# Altium schematic symbol library Header-254-single-vertical-F.SchLib: 24 symbols
Pins are listed as number, name and electrical type; pins without a type are passive.

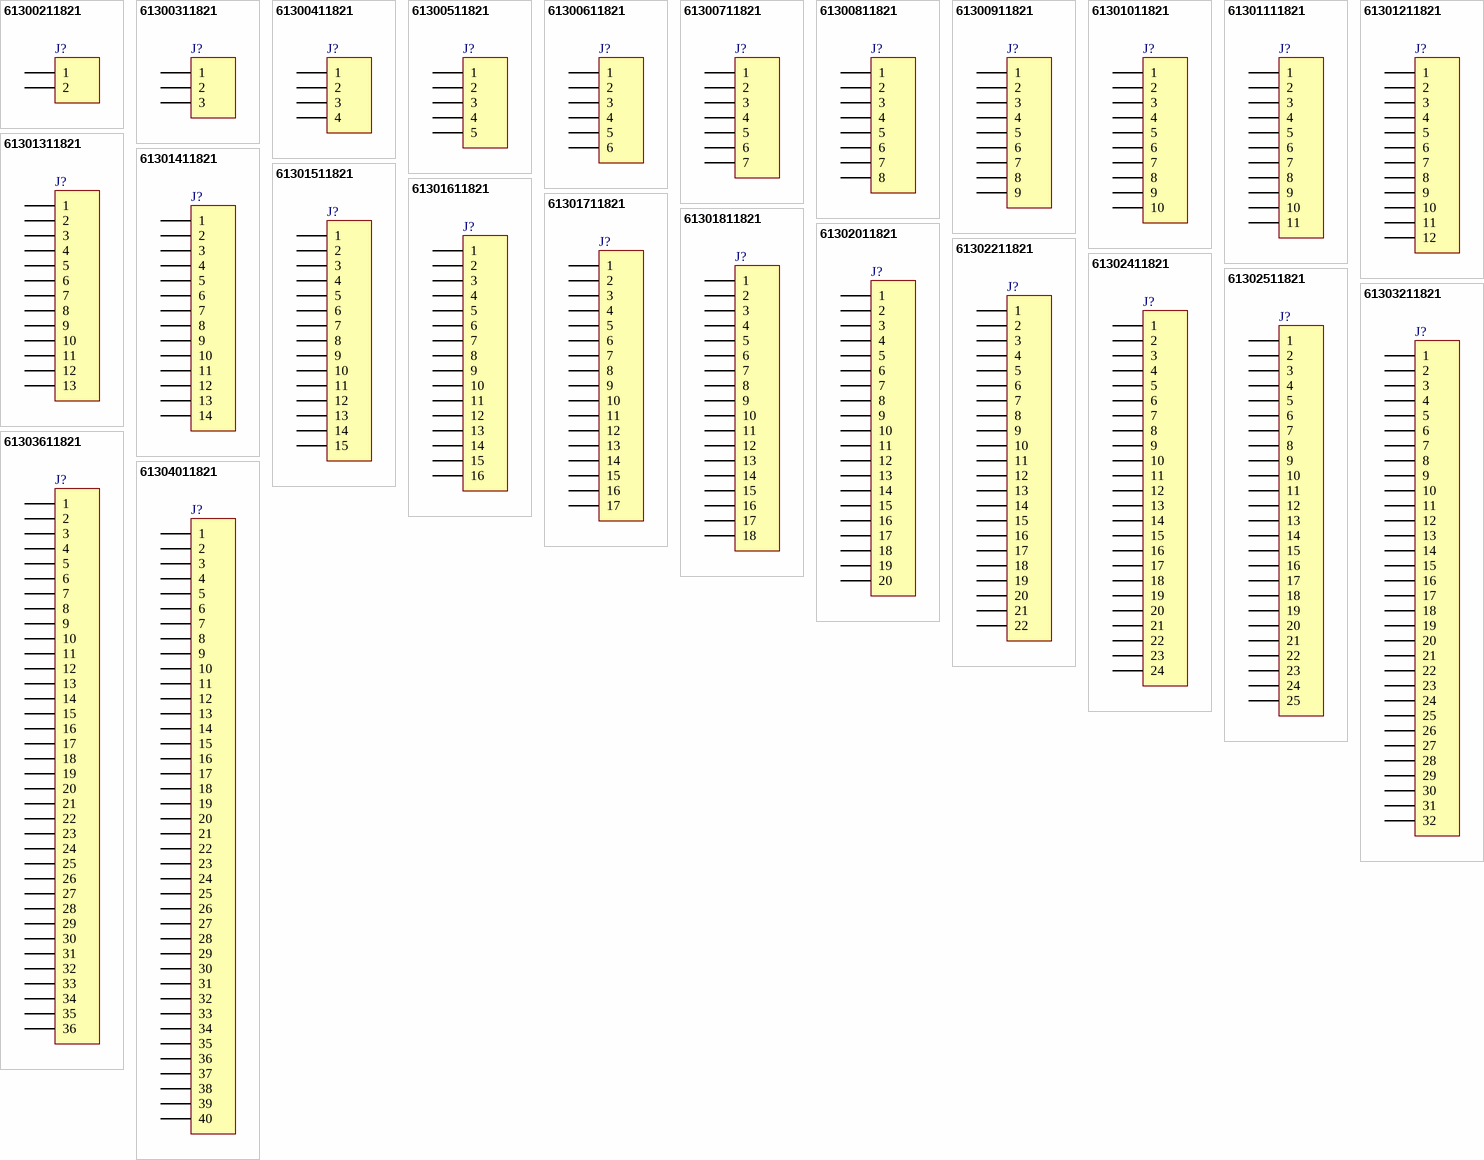
[diagram p0: symbols 61300211821 to 61304011821]

## 61300211821
designator J?, comment 02p  (value not drawn)
WR-PHD 2.54 mm Socket Header, 02p; Part Number: 61300211821; Vendor: Wurth Elektronik; Value: 02p
footprint 61300211821
pins: 1, 2

## 61300311821
designator J?, comment 03p  (value not drawn)
WR-PHD 2.54 mm Socket Header, 03p; Part Number: 61300311821; Vendor: Wurth Elektronik; Value: 03p
footprint 61300311821
pins: 1, 2, 3

## 61300411821
designator J?, comment 04p  (value not drawn)
WR-PHD 2.54 mm Socket Header, 04p; Part Number: 61300411821; Vendor: Wurth Elektronik; Value: 04p
footprint 61300411821
pins: 1, 2, 3, 4

## 61300511821
designator J?, comment 05p  (value not drawn)
WR-PHD 2.54 mm Socket Header, 05p; Part Number: 61300511821; Vendor: Wurth Elektronik; Value: 05p
footprint 61300511821
pins: 1, 2, 3, 4, 5

## 61300611821
designator J?, comment 06p  (value not drawn)
WR-PHD 2.54 mm Socket Header, 06p; Part Number: 61300611821; Vendor: Wurth Elektronik; Value: 06p
footprint 61300611821
pins: 1, 2, 3, 4, 5, 6

## 61300711821
designator J?, comment 07p  (value not drawn)
WR-PHD 2.54 mm Socket Header, 07p; Part Number: 61300711821; Vendor: Wurth Elektronik; Value: 07p
footprint 61300711821
pins: 1, 2, 3, 4, 5, 6, 7

## 61300811821
designator J?, comment 08p  (value not drawn)
WR-PHD 2.54 mm Socket Header, 08p; Part Number: 61300811821; Vendor: Wurth Elektronik; Value: 08p
footprint 61300811821
pins: 1, 2, 3, 4, 5, 6, 7, 8

## 61300911821
designator J?, comment 09p  (value not drawn)
WR-PHD 2.54 mm Socket Header, 09p; Part Number: 61300911821; Vendor: Wurth Elektronik; Value: 09p
footprint 61300911821
pins: 1, 2, 3, 4, 5, 6, 7, 8, 9

## 61301011821
designator J?, comment 10p  (value not drawn)
WR-PHD 2.54 mm Socket Header, 10p; Part Number: 61301011821; Vendor: Wurth Elektronik; Value: 10p
footprint 61301011821
pins: 1, 2, 3, 4, 5, 6, 7, 8, 9, 10

## 61301111821
designator J?, comment 11p  (value not drawn)
WR-PHD 2.54 mm Socket Header, 11p; Part Number: 61301111821; Vendor: Wurth Elektronik; Value: 11p
footprint 61301111821
pins: 1, 2, 3, 4, 5, 6, 7, 8, 9, 10, 11

## 61301211821
designator J?, comment 12p  (value not drawn)
WR-PHD 2.54 mm Socket Header, 12p; Part Number: 61301211821; Vendor: Wurth Elektronik; Value: 12p
footprint 61301211821
pins: 1, 2, 3, 4, 5, 6, 7, 8, 9, 10, 11, 12

## 61301311821
designator J?, comment 13p  (value not drawn)
WR-PHD 2.54 mm Socket Header, 13p; Part Number: 61301311821; Vendor: Wurth Elektronik; Value: 13p
footprint 61301311821
pins: 1, 2, 3, 4, 5, 6, 7, 8, 9, 10, 11, 12, 13

## 61301411821
designator J?, comment 14p  (value not drawn)
WR-PHD 2.54 mm Socket Header, 14p; Part Number: 61301411821; Vendor: Wurth Elektronik; Value: 14p
footprint 61301411821
pins: 1, 2, 3, 4, 5, 6, 7, 8, 9, 10, 11, 12, 13, 14

## 61301511821
designator J?, comment 15p  (value not drawn)
WR-PHD 2.54 mm Socket Header, 15p; Part Number: 61301511821; Vendor: Wurth Elektronik; Value: 15p
footprint 61301511821
pins: 1, 2, 3, 4, 5, 6, 7, 8, 9, 10, 11, 12, 13, 14, 15

## 61301611821
designator J?, comment 16p  (value not drawn)
WR-PHD 2.54 mm Socket Header, 16p; Part Number: 61301611821; Vendor: Wurth Elektronik; Value: 16p
footprint 61301611821
pins: 1, 2, 3, 4, 5, 6, 7, 8, 9, 10, 11, 12, 13, 14, 15, 16

## 61301711821
designator J?, comment 17p  (value not drawn)
WR-PHD 2.54 mm Socket Header, 17p; Part Number: 61301711821; Vendor: Wurth Elektronik; Value: 17p
footprint 61301711821
pins: 1, 2, 3, 4, 5, 6, 7, 8, 9, 10, 11, 12, 13, 14, 15, 16, 17

## 61301811821
designator J?, comment 18p  (value not drawn)
WR-PHD 2.54 mm Socket Header, 18p; Part Number: 61301811821; Vendor: Wurth Elektronik; Value: 18p
footprint 61301811821
pins: 1, 2, 3, 4, 5, 6, 7, 8, 9, 10, 11, 12, 13, 14, 15, 16, 17, 18

## 61302011821
designator J?, comment 20p  (value not drawn)
WR-PHD 2.54 mm Socket Header, 20p; Part Number: 61302011821; Vendor: Wurth Elektronik; Value: 20p
footprint 61302011821
pins: 1, 2, 3, 4, 5, 6, 7, 8, 9, 10, 11, 12, 13, 14, 15, 16, 17, 18, 19, 20

## 61302211821
designator J?, comment 22p  (value not drawn)
WR-PHD 2.54 mm Socket Header, 22p; Part Number: 61302211821; Vendor: Wurth Elektronik; Value: 22p
footprint 61302211821
pins: 1, 2, 3, 4, 5, 6, 7, 8, 9, 10, 11, 12, 13, 14, 15, 16, 17, 18, 19, 20, 21, 22

## 61302411821
designator J?, comment 24p  (value not drawn)
WR-PHD 2.54 mm Socket Header, 24p; Part Number: 61302411821; Vendor: Wurth Elektronik; Value: 24p
footprint 61302411821
pins: 1, 2, 3, 4, 5, 6, 7, 8, 9, 10, 11, 12, 13, 14, 15, 16, 17, 18, 19, 20, 21, 22, 23, 24

## 61302511821
designator J?, comment 25p  (value not drawn)
WR-PHD 2.54 mm Socket Header, 25p; Part Number: 61302511821; Vendor: Wurth Elektronik; Value: 25p
footprint 61302511821
pins: 1, 2, 3, 4, 5, 6, 7, 8, 9, 10, 11, 12, 13, 14, 15, 16, 17, 18, 19, 20, 21, 22, 23, 24, 25

## 61303211821
designator J?, comment 32p  (value not drawn)
WR-PHD 2.54 mm Socket Header, 32p; Part Number: 61303211821; Vendor: Wurth Elektronik; Value: 32p
footprint 61303211821
pins: 1, 2, 3, 4, 5, 6, 7, 8, 9, 10, 11, 12, 13, 14, 15, 16, 17, 18, 19, 20, 21, 22, 23, 24, 25, 26, 27, 28, 29, 30, 31, 32

## 61303611821
designator J?, comment 36p  (value not drawn)
WR-PHD 2.54 mm Socket Header, 36p; Part Number: 61303611821; Vendor: Wurth Elektronik; Value: 36p
footprint 61303611821
pins: 1, 2, 3, 4, 5, 6, 7, 8, 9, 10, 11, 12, 13, 14, 15, 16, 17, 18, 19, 20, 21, 22, 23, 24, 25, 26, 27, 28, 29, 30, 31, 32, 33, 34, 35, 36

## 61304011821
designator J?, comment 40p  (value not drawn)
WR-PHD 2.54 mm Socket Header, 40p; Part Number: 61304011821; Vendor: Wurth Elektronik; Value: 40p
footprint 61304011821
pins: 1, 2, 3, 4, 5, 6, 7, 8, 9, 10, 11, 12, 13, 14, 15, 16, 17, 18, 19, 20, 21, 22, 23, 24, 25, 26, 27, 28, 29, 30, 31, 32, 33, 34, 35, 36, 37, 38, 39, 40